# EAGLE library part PINHD-2X3 (library 55percent)
PIN HEADER
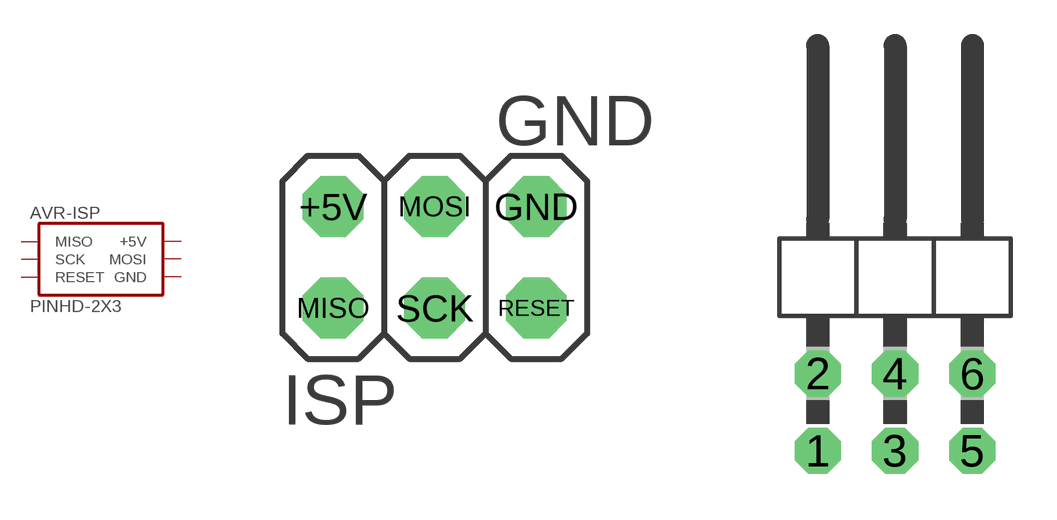
[diagram p2: symbol with the pads of 2X03; footprints 2X03, 2X03/90]

Designator prefix JP

## PINHD-2X3  [2X03]
+5V  +5V  pas
GND  GND  pas
MISO  MISO  pas
MOSI  MOSI  pas
RESET  RESET  pas
SCK  SCK  pas

## PINHD-2X3/90  [2X03/90]
1  MISO  pas
2  +5V  pas
3  SCK  pas
4  MOSI  pas
5  RESET  pas
6  GND  pas

## Footprint 2X03 (pad centres in mm)
PIN HEADER
drill 1.016 octagon: +5V -2.54,1.27; GND 2.54,1.27; MISO -2.54,-1.27; MOSI 0,1.27; RESET 2.54,-1.27; SCK 0,-1.27

## Footprint 2X03/90 (pad centres in mm)
PIN HEADER
drill 1.016 octagon: 1 -2.54,-6.35; 2 -2.54,-3.81; 3 0,-6.35; 4 0,-3.81; 5 2.54,-6.35; 6 2.54,-3.81